# Altium footprint library PcbLib.PcbLib: 4 footprints
Each footprint in its own frame and in the unit in brackets; x right, y up, seen from the top. Pads: shape width x height; smd on the part's side, far side on the other; paste and mask are expansions set on the pad; w line width, h text height; cw(c..) or ccw(c..) is an arc to the next point about the centre after c.
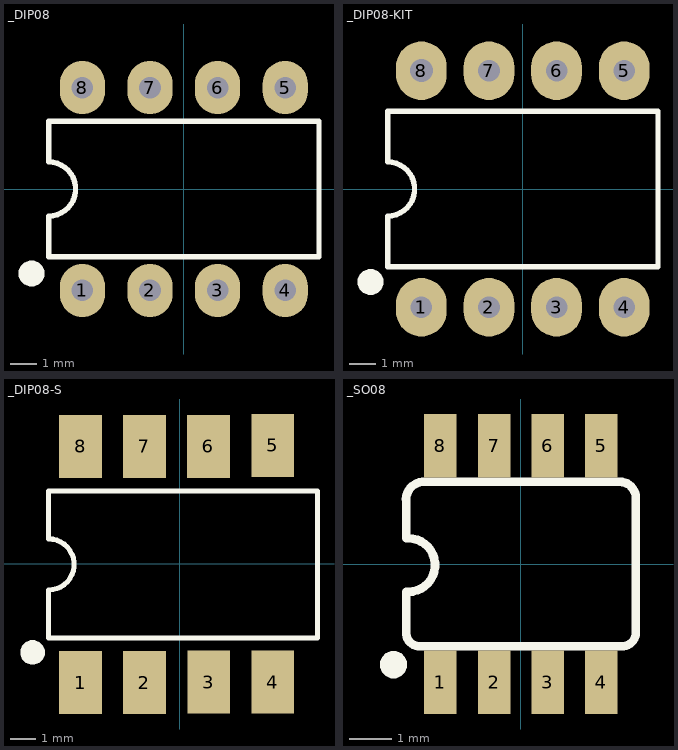
[diagram p0: the footprints below, top view; thin cyan lines are the x and y axes]

## _DIP08 [mm]
pads (8):
  oval 1.7x2 hole 0.813: 1(-3.81,-3.81) 2(-1.27,-3.81) 3(1.27,-3.81) 4(3.81,-3.81) 5(3.81,3.81) 6(1.27,3.81) 7(-1.27,3.81) 8(-3.81,3.81)
Top Overlay:
  region: -6.191,-3.175 -6.191,-3.08 -6.119,-2.905 -5.985,-2.771 -5.81,-2.699 -5.715,-2.699 -5.62,-2.699 -5.445,-2.771 -5.311,-2.905 -5.239,-3.08 -5.239,-3.175 -5.239,-3.27 -5.311,-3.445 -5.445,-3.579 -5.62,-3.651 -5.715,-3.651 -5.81,-3.651 -5.985,-3.579 -6.119,-3.445 -6.191,-3.27
  lines w0.203: -5.08,-2.54 5.08,-2.54 5.08,2.54 -5.08,2.54 -5.08,1.016 cw(c-5.08,0) -5.08,-1.016 -5.08,-2.54

## _DIP08-KIT [mil]
pads (8):
  oval 75x86.61 hole 32: 1(-150,-175) 2(-50,-175) 3(50,-175) 4(150,-175) 5(150,175) 6(50,175) 7(-50,175)
  oval 75x86.61 hole 34: 8(-150,175)
Top Overlay:
  region: -243.75,-137.5 -243.75,-133.77 -240.9,-126.88 -235.62,-121.6 -228.73,-118.75 -225,-118.75 -221.27,-118.75 -214.38,-121.6 -209.1,-126.88 -206.25,-133.77 -206.25,-137.5 -206.25,-141.23 -209.1,-148.12 -214.38,-153.4 -221.27,-156.25 -225,-156.25 -228.73,-156.25 -235.62,-153.4 -240.9,-148.12 -243.75,-141.23
  lines w8: -200,-115 200,-115 200,115 -200,115 -200,40 cw(c-200,0) -200,-40 -200,-115
Top Solder:
  circle w0: c150,-175 r17
  circle w0: c50,-175 r17
  circle w0: c-50,-175 r17
  circle w0: c-150,-175 r17
  circle w0: c150,175 r17
  circle w0: c50,175 r17
  circle w0: c-50,175 r17
  circle w0: c-150,175 r17
Bottom Solder:
  circle w0: c150,-175 r42
  circle w0: c50,-175 r42
  circle w0: c-50,-175 r42
  circle w0: c-150,-175 r42
  circle w0: c150,175 r42
  circle w0: c50,175 r42
  circle w0: c-50,175 r42
  circle w0: c-150,175 r42

## _DIP08-S [mm]
pads (8):
  rect 1.7x2.5 smd: 1(-3.95,-4.718) 2(-1.41,-4.718) 3(1.143,-4.699) 4(3.683,-4.699) 5(3.683,4.699) 6(1.13,4.664) 7(-1.41,4.664) 8(-3.95,4.664)
Top Overlay:
  region: -6.331,-3.52 -6.331,-3.425 -6.259,-3.25 -6.125,-3.116 -5.95,-3.043 -5.855,-3.043 -5.76,-3.043 -5.585,-3.116 -5.451,-3.25 -5.379,-3.425 -5.379,-3.52 -5.379,-3.614 -5.451,-3.789 -5.585,-3.923 -5.76,-3.996 -5.855,-3.996 -5.95,-3.996 -6.125,-3.923 -6.259,-3.789 -6.331,-3.614
  lines w0.203: -5.22,-2.948 -5.22,-1.043 ccw(c-5.22,-0.027) -5.22,0.989 -5.22,2.894 5.461,2.894 5.461,-2.948 -5.22,-2.948
Top Solder:
  circle w0: c-3.95,4.664 r0.432
  circle w0: c-1.41,4.664 r0.432
  circle w0: c-3.95,-4.718 r0.432
  circle w0: c-1.41,-4.718 r0.432

## _SO08 [mm]
pads (8):
  rect 0.77x1.5 smd: 1(-1.905,-2.8) 2(-0.635,-2.8) 3(0.635,-2.8) 4(1.905,-2.8) 5(1.905,2.8) 6(0.635,2.8) 7(-0.635,2.8) 8(-1.905,2.8)
Top Overlay:
  region: -2.699,-2.381 -2.699,-2.318 -2.747,-2.201 -2.836,-2.112 -2.953,-2.064 -3.016,-2.064 -3.079,-2.064 -3.196,-2.112 -3.285,-2.201 -3.334,-2.318 -3.334,-2.381 -3.334,-2.444 -3.285,-2.561 -3.196,-2.65 -3.079,-2.699 -3.016,-2.699 -2.953,-2.699 -2.836,-2.65 -2.747,-2.561 -2.699,-2.444
  lines w0.203: -2.718,-0.66 -2.718,-1.665 ccw(c-2.387,-1.616) -2.337,-1.946 2.437,-1.946 ccw(c2.387,-1.615) 2.718,-1.565 2.718,1.565 ccw(c2.337,1.566) 2.337,1.946 -2.337,1.946 ccw(c-2.287,1.515) -2.718,1.465 ; -2.718,0.61 -2.718,1.453 ; -2.667,-0.66 ccw(c-2.667,-0.025) -2.667,0.61
Mechanical 16:
  rectangle: -2.159,-3.302 -1.651,-2.273
  rectangle: -0.889,-3.302 -0.381,-2.273
  rectangle: 0.381,-3.302 0.889,-2.273
  rectangle: 1.651,-3.302 2.159,-2.273
  rectangle: -0.889,2.286 -0.381,3.302
  rectangle: 0.381,2.286 0.889,3.302
  rectangle: 1.651,2.286 2.159,3.302
  rectangle: -2.159,2.286 -1.651,3.302